# EAGLE library part XC2C64/44 (library Xilinx)
XC2C64 CoolRunner II CPLD (44 pin packages)
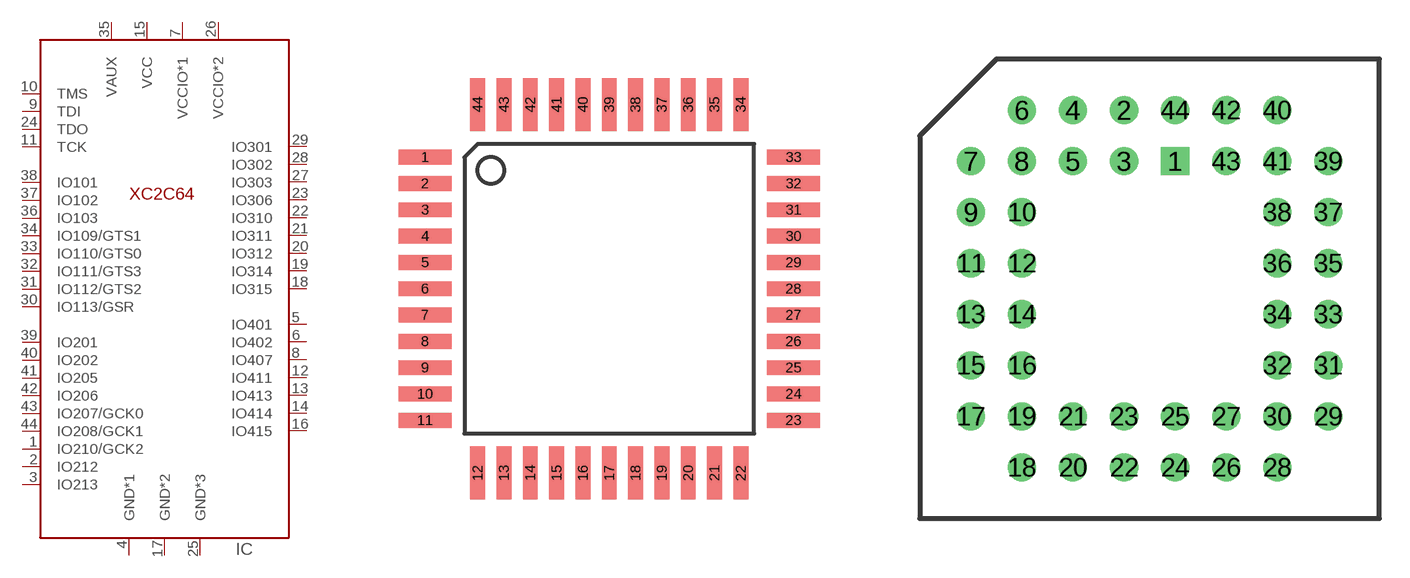
[diagram p10: symbol with the pads of VQ44; footprints VQ44, PLCC-44T]

Designator prefix IC

## XC2C64/44-VQ44  [VQ44]
1  IO210/GCK2
2  IO212
3  IO213
4  GND*1
5  IO401
6  IO402
7  VCCIO*1
8  IO407
9  TDI
10  TMS
11  TCK
12  IO411
13  IO413
14  IO414
15  VCC
16  IO415
17  GND*2
18  IO315
19  IO314
20  IO312
21  IO311
22  IO310
23  IO306
24  TDO
25  GND*3
26  VCCIO*2
27  IO303
28  IO302
29  IO301
30  IO113/GSR
31  IO112/GTS2
32  IO111/GTS3
33  IO110/GTS0
34  IO109/GTS1
35  VAUX
36  IO103
37  IO102
38  IO101
39  IO201
40  IO202
41  IO205
42  IO206
43  IO207/GCK0
44  IO208/GCK1

## XC2C64/44-PC44T  [PLCC-44T]
1  IO201
2  IO202
3  IO205
4  IO206
5  IO207/GCK0
6  IO208/GCK1
7  IO210/GCK2
8  IO212
9  IO213
10  GND*1
11  IO401
12  IO402
13  VCCIO*1
14  IO407
15  TDI
16  TMS
17  TCK
18  IO411
19  IO413
20  IO414
21  VCC
22  IO415
23  GND*2
24  IO315
25  IO314
26  IO312
27  IO311
28  IO310
29  IO306
30  TDO
31  GND*3
32  VCCIO*2
33  IO303
34  IO302
35  IO301
36  IO113/GSR
37  IO112/GTS2
38  IO111/GTS3
39  IO110/GTS0
40  IO109/GTS1
41  VAUX
42  IO103
43  IO102
44  IO101

## Footprint VQ44 (pad centres in mm)
VQFP 44
smd 1.6 x 0.45: 1 -5.6,4; 2 -5.6,3.2; 3 -5.6,2.4; 4 -5.6,1.6; 5 -5.6,0.8; 6 -5.6,0; 7 -5.6,-0.8; 8 -5.6,-1.6; 9 -5.6,-2.4; 10 -5.6,-3.2; 11 -5.6,-4; 23 5.6,-4; 24 5.6,-3.2; 25 5.6,-2.4; 26 5.6,-1.6; 27 5.6,-0.8; 28 5.6,0; 29 5.6,0.8; 30 5.6,1.6; 31 5.6,2.4; 32 5.6,3.2; 33 5.6,4
smd 0.45 x 1.6: 12 -4,-5.6; 13 -3.2,-5.6; 14 -2.4,-5.6; 15 -1.6,-5.6; 16 -0.8,-5.6; 17 0,-5.6; 18 0.8,-5.6; 19 1.6,-5.6; 20 2.4,-5.6; 21 3.2,-5.6; 22 4,-5.6; 34 4,5.6; 35 3.2,5.6; 36 2.4,5.6; 37 1.6,5.6; 38 0.8,5.6; 39 0,5.6; 40 -0.8,5.6; 41 -1.6,5.6; 42 -2.4,5.6; 43 -3.2,5.6; 44 -4,5.6

## Footprint PLCC-44T (pad centres in mm)
44 pin PLCC, through hole socket
drill 0.889 square: 1 1.27,6.35
drill 0.889 round: 2 -1.27,8.89; 3 -1.27,6.35; 4 -3.81,8.89; 5 -3.81,6.35; 6 -6.35,8.89; 7 -8.89,6.35; 8 -6.35,6.35; 9 -8.89,3.81; 10 -6.35,3.81; 11 -8.89,1.27; 12 -6.35,1.27; 13 -8.89,-1.27; 14 -6.35,-1.27; 15 -8.89,-3.81; 16 -6.35,-3.81; 17 -8.89,-6.35; 18 -6.35,-8.89; 19 -6.35,-6.35; 20 -3.81,-8.89; 21 -3.81,-6.35; 22 -1.27,-8.89; 23 -1.27,-6.35; 24 1.27,-8.89; 25 1.27,-6.35; 26 3.81,-8.89; 27 3.81,-6.35; 28 6.35,-8.89; 29 8.89,-6.35; 30 6.35,-6.35; 31 8.89,-3.81; 32 6.35,-3.81; 33 8.89,-1.27; 34 6.35,-1.27; 35 8.89,1.27; 36 6.35,1.27; 37 8.89,3.81; 38 6.35,3.81; 39 8.89,6.35; 40 6.35,8.89; 41 6.35,6.35; 42 3.81,8.89; 43 3.81,6.35; 44 1.27,8.89